# Altium footprint library MBA-591.PcbLib: 1 footprints
Each footprint in its own frame and in the unit in brackets; x right, y up, seen from the top. Pads: shape width x height; smd on the part's side, far side on the other; paste and mask are expansions set on the pad; w line width, h text height; cw(c..) or ccw(c..) is an arc to the next point about the centre after c.
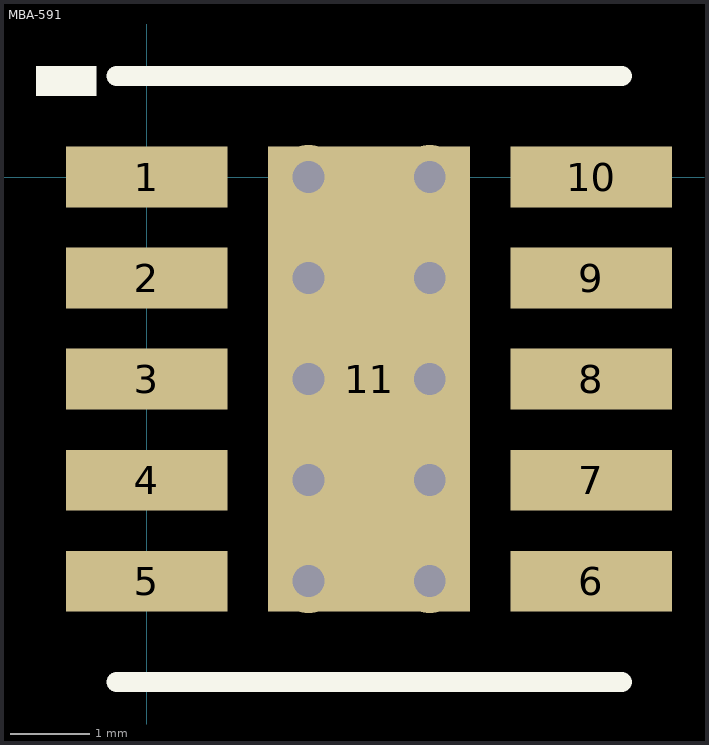
[diagram p0: the footprint, top view; thin cyan lines are the x and y axes]

## MBA-591 [mil]
pads (11):
  rect 80x30 smd mask+4: 1(0,0) 2(0,-50) 3(0,-100) 4(0,-150) 5(0,-200) 6(220,-200) 7(220,-150) 8(220,-100) 9(220,-50) 10(220,0)
  rect 100x230 smd: 11(110,-100)
via 80,-100 diameter 31.5 hole 15.75
via 80,-50 diameter 31.5 hole 15.75
via 80,0 diameter 31.5 hole 15.75
via 80,-150 diameter 31.5 hole 15.75
via 80,-200 diameter 31.5 hole 15.75
via 140,-200 diameter 31.5 hole 15.75
via 140,-150 diameter 31.5 hole 15.75
via 140,-100 diameter 31.5 hole 15.75
via 140,-50 diameter 31.5 hole 15.75
via 140,0 diameter 31.5 hole 15.75
Top Overlay:
  rectangle: -55,40 -25,55
  lines w10: -15,-250 235,-250 ; -15,50 235,50
3D body: height 94.88, standoff 0, extent -15,-250 235,50